# Altium schematic symbol library LDO.SchLib: 1 symbol
Pins are listed as number, name and electrical type; pins without a type are passive.

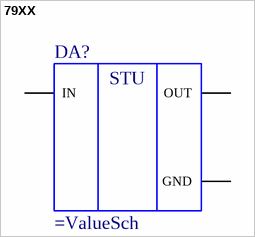
[diagram p0: symbol 79XX]

## 79XX
designator DA?
3 lead stabilisator 79XX
pins: GND (power), IN, OUT (power)
1 alternate drawing of the same symbol
text: STU